# Altium integrated library AC1005.IntLib: 1 symbol
Pins are listed as number, name and electrical type; pins without a type are passive.

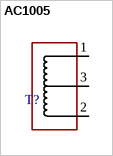
[diagram p0: symbol AC1005]

## AC1005
designator T?  (value not drawn)
footprint AC1005
pins: 1 17, 2, 3